# EAGLE library part USB-C-12 (library usbc)
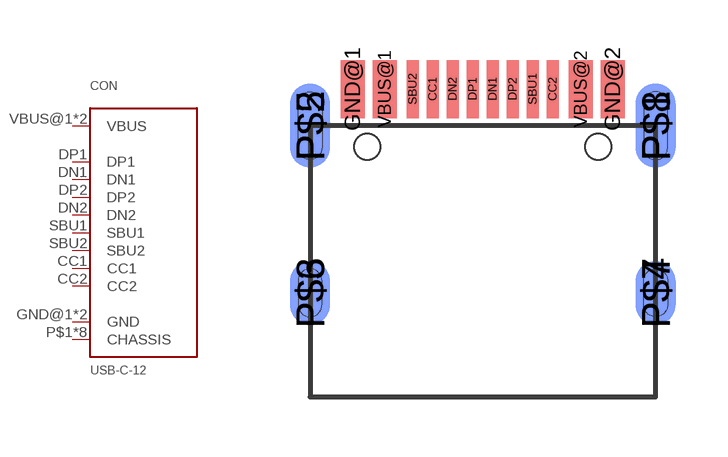
[diagram p0: symbol with the pads of C-31-M-12; footprint C-31-M-12]

Designator prefix CON

## USB-C-12  [C-31-M-12]
CC1  CC1
CC2  CC2
DN1  DN1
DN2  DN2
DP1  DP1
DP2  DP2
GND@1  GND
GND@2  GND
P$1  CHASSIS
P$2  CHASSIS
P$3  CHASSIS
P$4  CHASSIS
P$5  CHASSIS
P$6  CHASSIS
P$7  CHASSIS
P$8  CHASSIS
SBU1  SBU1
SBU2  SBU2
VBUS@1  VBUS
VBUS@2  VBUS

## Footprint C-31-M-12 (pad centres in mm)
smd 0.3 x 1.45: CC1 -1.25,3.005; CC2 1.75,3.005; DN1 0.25,3.005; DN2 -0.75,3.005; DP1 -0.25,3.005; DP2 0.75,3.005; SBU1 1.25,3.005; SBU2 -1.75,3.005
smd 0.6 x 1.45: GND@1 -3.25,3.005; GND@2 3.25,3.005; VBUS@1 -2.45,3.005; VBUS@2 2.45,3.005
smd 1 x 2.1: P$1 4.32,2.09; P$2 -4.32,2.09
smd 1 x 1.6: P$3 -4.32,-2.09; P$4 4.32,-2.09
smd 1 x 2.1 bottom: P$5 -4.32,2.09; P$8 4.32,2.09
smd 1 x 1.6 bottom: P$6 -4.32,-2.09; P$7 4.32,-2.09
hole 0.65 at 2.89,1.56
hole 0.65 at -2.89,1.56